# EAGLE library part LE50CD-TR (library SamacSys_Parts)
LE50CD-TR, Low Dropout Voltage Regulator, 0.1A, 5 V +/-2%, 8-Pin SO Source: Datasheet <http://www.st.com/st-web-ui/static/active/en/resource/technical/document/datasheet/CD00000545.pdf>
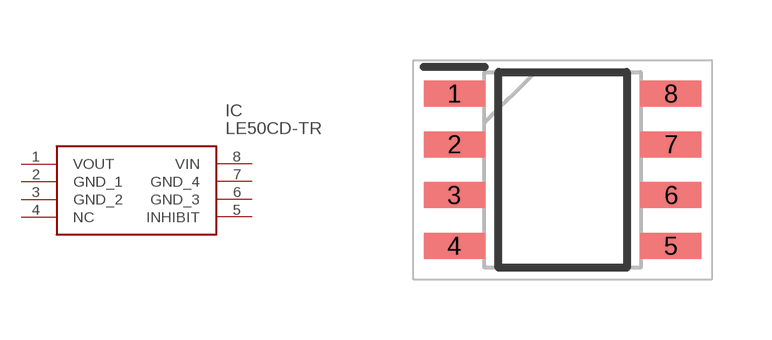
[diagram p0: symbol with the pads of SOIC127P600X175-8N; footprint SOIC127P600X175-8N]

Designator prefix IC

## LE50CD-TR (DESCRIPTION: LE50CD-TR, Low Dropout Voltage Regulator, 0.1A, 5 V +/-2%, 8-Pin SO; HEIGHT: 1.75mm; MANUFACTURER_NAME: STMicroelectronics; MANUFACTURER_PART_NUMBER: LE50CD-TR; MOUSER_PART_NUMBER: 511-LE50CD-TR; MOUSER_PRICE-STOCK: https://www.mouser.co.uk/ProductDetail/STMicroelectronics/LE50CD-TR?qs=03sMZZnzz33VVYaNvjw4jw%3D%3D)  [SOIC127P600X175-8N]
1  VOUT
2  GND_1
3  GND_2
4  NC  nc
5  INHIBIT
6  GND_3
7  GND_4
8  VIN

## Footprint SOIC127P600X175-8N (pad centres in mm)
SO+
smd 1.525 x 0.65: 1 -2.712,1.905; 2 -2.712,0.635; 3 -2.712,-0.635; 4 -2.712,-1.905; 5 2.712,-1.905; 6 2.712,-0.635; 7 2.712,0.635; 8 2.712,1.905